# Altium integrated library SS310.IntLib: 1 symbol
Pins are listed as number, name and electrical type; pins without a type are passive.

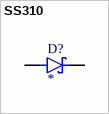
[diagram p0: symbol SS310]

## SS310
designator D?
3A, 100V, Schottky Rectifier; MP: SS310; MF: Taiwan Semiconductor; Availability: In Stock; Purchase-URL: https://pricing.snapeda.com/search/part/SS310/?ref=eda; Package: DO-214AB-2 Taiwan Semiconductor; SnapEDA_Link: https://www.snapeda.com/parts/SS310/Taiwan+Semiconductor/view-part/?ref=snap; Check_prices: https://www.snapeda.com/parts/SS310/Taiwan+Semiconductor/view-part/?ref=eda; Price: None; Value: *
footprint DIOM6859X262N
pins: A, C K